# Altium footprint library micrel.PCBLIB: 5 footprints
Each footprint in its own frame and in the unit in brackets; x right, y up, seen from the top. Pads: shape width x height; smd on the part's side, far side on the other; paste and mask are expansions set on the pad; w line width, h text height; cw(c..) or ccw(c..) is an arc to the next point about the centre after c.
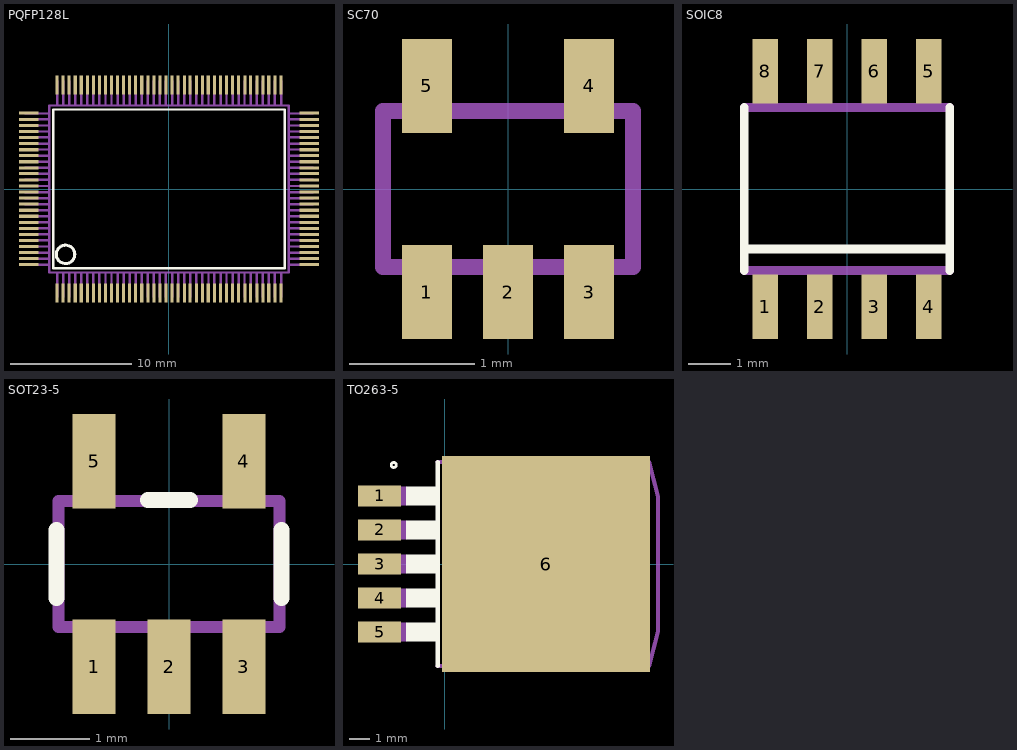
[diagram p0: the footprints below, top view; thin cyan lines are the x and y axes]

## PQFP128L [mil]
pads (128):
  rect 10x63 smd: 1(-364.17,-338.58) 2(-344.49,-338.58) 3(-324.8,-338.58) 4(-305.12,-338.58) 5(-285.43,-338.58) 6(-265.75,-338.58) 7(-246.06,-338.58) 8(-226.38,-338.58) 9(-206.69,-338.58) 10(-187.01,-338.58) 11(-167.32,-338.58) 12(-147.64,-338.58) 13(-127.95,-338.58) 14(-108.27,-338.58) 15(-88.58,-338.58) 16(-68.9,-338.58) 17(-49.21,-338.58) 18(-29.53,-338.58) 19(-9.84,-338.58) 20(10,-338.58) 21(30,-338.58) 22(50,-338.58) 23(69,-338.58) 24(89,-338.58) 25(109,-338.58) 26(128,-338.58) 27(148,-338.58) 28(168,-338.58) 29(188,-338.58) 30(207,-338.58) 31(227,-338.58) 32(247,-338.58) 33(266,-338.58) 34(286,-338.58) 35(306,-338.58) 36(325,-338.58) 37(345,-338.58) 38(365,-338.58) 65(365,339) 66(345,339) 67(325,339) 68(306,339) 69(286,339) 70(266,339) 71(247,339) 72(227,339) 73(207,339) 74(188,339) 75(168,339) 76(148,339) 77(128,339) 78(109,339) 79(89,339) 80(69,339) 81(50,339) 82(30,339) 83(10,339) 84(-9.84,339) 85(-29.53,339) 86(-49.21,339) 87(-68.9,339) 88(-88.58,339) 89(-108.27,339) 90(-127.95,339) 91(-147.64,339) 92(-167.32,339) 93(-187.01,339) 94(-206.69,339) 95(-226.38,339) 96(-246.06,339) 97(-265.75,339) 98(-285.43,339) 99(-305.12,339) 100(-324.8,339) 101(-344.49,339) 102(-364.17,339)
  rect 63x10 smd: 39(457,-246.06) 40(457,-226.38) 41(457,-206.69) 42(457,-187.01) 43(457,-167.32) 44(457,-147.64) 45(457,-127.95) 46(457,-108.27) 47(457,-88.58) 48(457,-68.9) 49(457,-49.21) 50(457,-29.53) 51(457,-9.84) 52(457,10) 53(457,30) 54(457,50) 55(457,69) 56(457,89) 57(457,109) 58(457,128) 59(457,148) 60(457,168) 61(457,188) 62(457,207) 63(457,227) 64(457,247) 103(-456.69,247) 104(-456.69,227) 105(-456.69,207) 106(-456.69,188) 107(-456.69,168) 108(-456.69,148) 109(-456.69,128) 110(-456.69,109) 111(-456.69,89) 112(-456.69,69) 113(-456.69,50) 114(-456.69,30) 115(-456.69,10) 116(-456.69,-9.84) 117(-456.69,-29.53) 118(-456.69,-49.21) 119(-456.69,-68.9) 120(-456.69,-88.58) 121(-456.69,-108.27) 122(-456.69,-127.95) 123(-456.69,-147.64) 124(-456.69,-167.32) 125(-456.69,-187.01) 126(-456.69,-206.69) 127(-456.69,-226.38) 128(-456.69,-246.06)
Top Overlay:
  circle w10: c-336.61,-212.6 r30
  lines w8: -376.77,-258.27 377,-258.27 377,259 -376.77,259 -376.77,-258.27
Mechanical 16:
  rectangle: -368.11,-352.36 -360.24,-273.62
  rectangle: -348.43,-352.36 -340.55,-273.62
  rectangle: -328.74,-352.36 -320.87,-273.62
  rectangle: -309.06,-352.36 -301.18,-273.62
  rectangle: -289.37,-352.36 -281.5,-273.62
  rectangle: -269.69,-352.36 -261.81,-273.62
  rectangle: -250,-352.36 -242.13,-273.62
  rectangle: -230.31,-352.36 -222.44,-273.62
  rectangle: -210.63,-352.36 -202.76,-273.62
  rectangle: -190.94,-352.36 -183.07,-273.62
  rectangle: -171.26,-352.36 -163.39,-273.62
  rectangle: -151.57,-352.36 -143.7,-273.62
  rectangle: -131.89,-352.36 -124.02,-273.62
  rectangle: -112.2,-352.36 -104.33,-273.62
  rectangle: -92.52,-352.36 -84.65,-273.62
  rectangle: -72.83,-352.36 -64.96,-273.62
  rectangle: -53.15,-352.36 -45.28,-273.62
  rectangle: -33.46,-352.36 -25.59,-273.62
  rectangle: -13.78,-352.36 -5.91,-273.62
  rectangle: 6,-352.36 14,-273.62
  rectangle: 26,-352.36 34,-273.62
  rectangle: 46,-352.36 54,-273.62
  rectangle: 65,-352.36 73,-273.62
  rectangle: 85,-352.36 93,-273.62
  rectangle: 105,-352.36 113,-273.62
  rectangle: 125,-352.36 132,-273.62
  rectangle: 144,-352.36 152,-273.62
  rectangle: 164,-352.36 172,-273.62
  rectangle: 184,-352.36 191,-273.62
  rectangle: 203,-352.36 211,-273.62
  rectangle: 223,-352.36 231,-273.62
  rectangle: 243,-352.36 250,-273.62
  rectangle: 262,-352.36 270,-273.62
  rectangle: 282,-352.36 290,-273.62
  rectangle: 302,-352.36 310,-273.62
  rectangle: 321,-352.36 329,-273.62
  rectangle: 341,-352.36 349,-273.62
  rectangle: 361,-352.36 369,-273.62
  rectangle: 392,-250 471,-242.13
  rectangle: 392,-230.31 471,-222.44
  rectangle: 392,-210.63 471,-202.76
  rectangle: 392,-190.94 471,-183.07
  rectangle: 392,-171.26 471,-163.39
  rectangle: 392,-151.57 471,-143.7
  rectangle: 392,-131.89 471,-124.02
  rectangle: 392,-112.2 471,-104.33
  rectangle: 392,-92.52 471,-84.65
  rectangle: 392,-72.83 471,-64.96
  rectangle: 392,-53.15 471,-45.28
  rectangle: 392,-33.46 471,-25.59
  rectangle: 392,-13.78 471,-5.91
  rectangle: 392,6 471,14
  rectangle: 392,26 471,34
  rectangle: 392,46 471,54
  rectangle: 392,65 471,73
  rectangle: 392,85 471,93
  rectangle: 392,105 471,113
  rectangle: 392,125 471,132
  rectangle: 392,144 471,152
  rectangle: 392,164 471,172
  rectangle: 392,184 471,191
  rectangle: 392,203 471,211
  rectangle: 392,223 471,231
  rectangle: 392,243 471,250
  rectangle: 361,274 369,353
  rectangle: 341,274 349,353
  rectangle: 321,274 329,353
  rectangle: 302,274 310,353
  rectangle: 282,274 290,353
  rectangle: 262,274 270,353
  rectangle: 243,274 250,353
  rectangle: 223,274 231,353
  rectangle: 203,274 211,353
  rectangle: 184,274 191,353
  rectangle: 164,274 172,353
  rectangle: 144,274 152,353
  rectangle: 125,274 132,353
  rectangle: 105,274 113,353
  rectangle: 85,274 93,353
  rectangle: 65,274 73,353
  rectangle: 46,274 54,353
  rectangle: 26,274 34,353
  rectangle: 6,274 14,353
  rectangle: -13.78,274 -5.91,353
  rectangle: -33.46,274 -25.59,353
  rectangle: -53.15,274 -45.28,353
  rectangle: -72.83,274 -64.96,353
  rectangle: -92.52,274 -84.65,353
  rectangle: -112.2,274 -104.33,353
  rectangle: -131.89,274 -124.02,353
  rectangle: -151.57,274 -143.7,353
  rectangle: -171.26,274 -163.39,353
  rectangle: -190.94,274 -183.07,353
  rectangle: -210.63,274 -202.76,353
  rectangle: -230.31,274 -222.44,353
  rectangle: -250,274 -242.13,353
  rectangle: -269.69,274 -261.81,353
  rectangle: -289.37,274 -281.5,353
  rectangle: -309.06,274 -301.18,353
  rectangle: -328.74,274 -320.87,353
  rectangle: -348.43,274 -340.55,353
  rectangle: -368.11,274 -360.24,353
  rectangle: -470.47,243 -391.73,250
  rectangle: -470.47,223 -391.73,231
  rectangle: -470.47,203 -391.73,211
  rectangle: -470.47,184 -391.73,191
  rectangle: -470.47,164 -391.73,172
  rectangle: -470.47,144 -391.73,152
  rectangle: -470.47,125 -391.73,132
  rectangle: -470.47,105 -391.73,113
  rectangle: -470.47,85 -391.73,93
  rectangle: -470.47,65 -391.73,73
  rectangle: -470.47,46 -391.73,54
  rectangle: -470.47,26 -391.73,34
  rectangle: -470.47,6 -391.73,14
  rectangle: -470.47,-13.78 -391.73,-5.91
  rectangle: -470.47,-33.46 -391.73,-25.59
  rectangle: -470.47,-53.15 -391.73,-45.28
  rectangle: -470.47,-72.83 -391.73,-64.96
  rectangle: -470.47,-92.52 -391.73,-84.65
  rectangle: -470.47,-112.2 -391.73,-104.33
  rectangle: -470.47,-131.89 -391.73,-124.02
  rectangle: -470.47,-151.57 -391.73,-143.7
  rectangle: -470.47,-171.26 -391.73,-163.39
  rectangle: -470.47,-190.94 -391.73,-183.07
  rectangle: -470.47,-210.63 -391.73,-202.76
  rectangle: -470.47,-230.31 -391.73,-222.44
  rectangle: -470.47,-250 -391.73,-242.13
  lines w8: -389.76,-271.65 390,-271.65 390,272 -389.76,272 -389.76,-271.65
3D body "User Library-LQFP-144-1.STEP": height 60.5, standoff -0.52, extent -433.3,-314.28 441.3,324

## SC70 [mm]
pads (5):
  rect 0.4x0.75 smd: 1(-0.65,-0.825) 2(0,-0.825) 3(0.65,-0.825) 4(0.65,0.825) 5(-0.65,0.825)
Top Paste:
  rectangle: -0.85,0.45 -0.45,1.2
  rectangle: 0.45,0.45 0.85,1.2
  rectangle: -0.838,-1.168 -0.508,-0.483
  rectangle: -0.165,-1.168 0.165,-0.483
  rectangle: 0.508,-1.168 0.838,-0.483
Mechanical 16:
  lines w0.127: -1,-0.625 -1,0.625 1,0.625 1,-0.625 -1,-0.625
3D body "User Library-sot353-sc70-5.step": height 1, standoff 0, extent -1.05,-1.15 1.05,1.15

## SOIC8 [mil]
pads (8):
  rect 23.62x59.06 smd: 1(-75,-108.27) 2(-25,-108.27) 3(25,-108.27) 4(75,-108.27) 5(75,108.27) 6(25,108.27) 7(-25,108.27) 8(-75,108.27)
Top Overlay:
  lines w8: -94.49,-74.8 -94.49,-55.12 ; -94.49,74.8 -94.49,-55.12 ; 94.49,-74.8 94.49,-55.12 ; 94.49,74.8 94.49,-55.12 ; -94.49,-55.12 94.49,-55.12
Mechanical 16:
  rectangle: -84.65,-122.05 -65.35,-78.74
  rectangle: -34.65,-122.05 -15.35,-78.74
  rectangle: 15.35,-122.05 34.65,-78.74
  rectangle: 65.35,-122.05 84.65,-78.74
  rectangle: 65.35,78.74 84.65,122.05
  rectangle: 15.35,78.74 34.65,122.05
  rectangle: -34.65,78.74 -15.35,122.05
  rectangle: -84.65,78.74 -65.35,122.05
  lines w8: -94.49,-74.8 94.49,-74.8 ; -94.49,74.8 94.49,74.8
3D body "SOIC8-1.step": height 68.9, standoff 0, extent -95.46,-117.11 97.46,119.11

## SOT23-5 [mil]
pads (5):
  rect 21.65x47.24 smd: 1(-37.4,-51.19) 2(0,-51.19) 3(37.4,-51.19) 4(37.4,51.19) 5(-37.4,51.19)
Top Overlay:
  lines w8: -56,-16.91 -56,16.91 ; -10.57,31.91 10.57,31.91 ; 56,-16.91 56,16.91
Mechanical 16:
  rectangle: -47.24,-59.06 -27.56,-33.46
  rectangle: -9.84,-59.06 9.84,-33.46
  rectangle: 27.56,-59.06 47.24,-33.46
  rectangle: 27.56,33.46 47.24,59.06
  rectangle: -47.24,33.46 -27.56,59.06
  lines w6: -55.12,-31.5 55.12,-31.5 55.12,31.5 -55.12,31.5 -55.12,-31.5
3D body "User Library-SOT23-5-2.step": height 57.09, standoff 0, extent -57.08,-56.11 57.09,54.12

## TO263-5 [mil]
pads (6):
  rect 85x42 smd: 1(-128,134) 2(-128,67) 3(-128,0) 4(-128,-67) 5(-128,-134)
  rect 409.84x425.2 smd: 6(200,0)
Top Overlay:
  circle w5: c-100,195 r5
  region: -76,153 -76,115 -10,115 -10,153
  region: -76,86 -76,48 -10,48 -10,86
  region: -76,19 -76,-19 -10,-19 -10,19
  region: -76,-48 -76,-86 -10,-86 -10,-48
  region: -76,-115 -76,-153 -10,-153 -10,-115
  lines w8: -13.39,-200.55 -13.39,200.55
Mechanical 16:
  region: -160,153 -160,115 -75,115 -75,153
  region: -160,86 -160,48 -75,48 -75,86
  region: -160,19 -160,-19 -75,-19 -75,19
  region: -160,-48 -160,-86 -75,-86 -75,-48
  region: -160,-115 -160,-153 -75,-153 -75,-115
  region: 0,0 10,0 10,10 0,10
  lines w8: -13.39,-200.55 382.09,-200.55 382.09,200.55 -13.39,200.55 ; 386.1,-200.98 402.28,-200.98 420.28,-132.99 420.28,132.99 402.28,200.98 386.1,200.98 386.1,-200.98
3D body "TO263 5Ld.step": height 179.92, standoff -0.39, extent -164.71,-200.99 411.7,199.01